# Altium footprint library 2STR2160.PcbLib: 3 footprints
Each footprint in its own frame and in the unit in brackets; x right, y up, seen from the top. Pads: shape width x height; smd on the part's side, far side on the other; paste and mask are expansions set on the pad; w line width, h text height; cw(c..) or ccw(c..) is an arc to the next point about the centre after c.
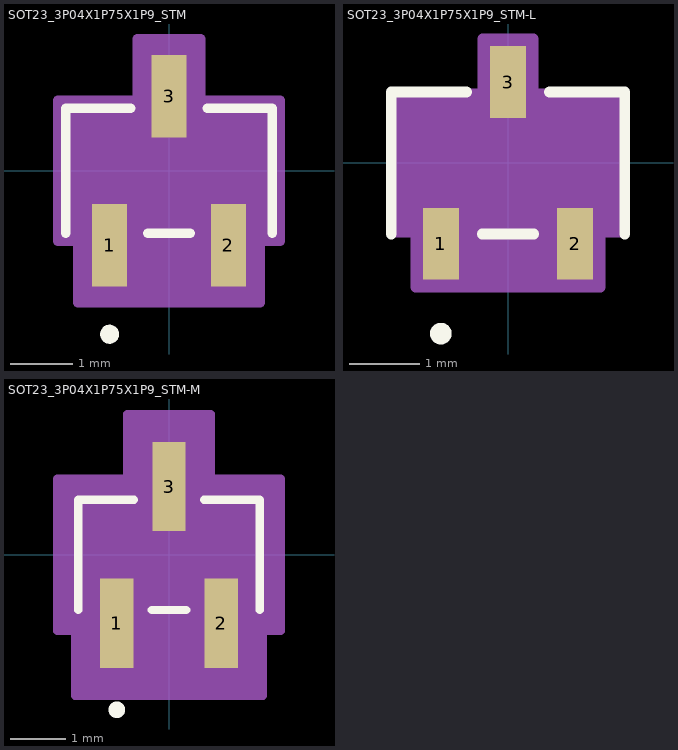
[diagram p0: the footprints below, top view; thin cyan lines are the x and y axes]

## SOT23_3P04X1P75X1P9_STM [mil]
pads (3):
  rect 22x52 smd paste-26 mask-26: 1(-37.4,-47) 2(37.4,-47)
  rect 22x52 smd paste+0 mask+0: 3(0,47)
Top Overlay:
  circle w6: c-37.4,-103 r3
  lines w6: -65,-39.5 -65,39.5 -24.1,39.5 ; -13.3,-39.5 13.3,-39.5 ; 24.1,39.5 65,39.5 65,-39.5
  text ".Designator" at -137.5,-25 h50
Mechanical 13:
  circle w1: c-37.4,-24.5 r3
  lines w1: -60,-34.5 60,-34.5 60,34.5 -60,34.5 -60,-34.5 ; -47.4,-59 -47.4,-34.5 -27.4,-34.5 -27.4,-59 -47.4,-59 ; -10,34.5 10,34.5 10,59 -10,59 -10,34.5 ; 27.4,-59 27.4,-34.5 47.4,-34.5 47.4,-59 27.4,-59
  text ".Designator" at -137.5,-25 h50
Mechanical 15:
  region: -70,-44.5 -70,44.5 -20,44.5 -20,83 20,83 20,44.5 70,44.5 70,-44.5 57.4,-44.5 57.4,-83 -57.4,-83 -57.4,-44.5
  lines w6: -70,-44.5 -70,44.5 -20,44.5 -20,83 20,83 20,44.5 70,44.5 70,-44.5 57.4,-44.5 57.4,-83 -57.4,-83 -57.4,-44.5 -70,-44.5
3D body "SOT23_3P04X1P75X1P9_STM.step": height 55.12, standoff 0, extent -60,-59.02 60,59.02

## SOT23_3P04X1P75X1P9_STM-L [mil]
pads (3):
  rect 20x40 smd paste+0 mask+0: 1(-37.4,-45) 2(37.4,-45) 3(0,45)
Top Overlay:
  circle w6: c-37.4,-95 r3
  lines w6: -65,-39.5 -65,39.5 -23.1,39.5 ; -14.3,-39.5 14.3,-39.5 ; 23.1,39.5 65,39.5 65,-39.5
  text ".Designator" at -137.5,-25 h50
Mechanical 13:
  circle w1: c-37.4,-24.5 r3
  lines w1: -60,-34.5 60,-34.5 60,34.5 -60,34.5 -60,-34.5 ; -47.4,-59 -47.4,-34.5 -27.4,-34.5 -27.4,-59 -47.4,-59 ; -10,34.5 10,34.5 10,59 -10,59 -10,34.5 ; 27.4,-59 27.4,-34.5 47.4,-34.5 47.4,-59 27.4,-59
  text ".Designator" at -137.5,-25 h50
Mechanical 15:
  region: -64,-38.5 -64,38.5 -14,38.5 -14,69 14,69 14,38.5 64,38.5 64,-38.5 51.4,-38.5 51.4,-69 -51.4,-69 -51.4,-38.5
  lines w6: -64,-38.5 -64,38.5 -14,38.5 -14,69 14,69 14,38.5 64,38.5 64,-38.5 51.4,-38.5 51.4,-69 -51.4,-69 -51.4,-38.5 -64,-38.5
3D body "SOT23_3P04X1P75X1P9_STM.step": height 55.12, standoff 0, extent -60,-59.02 60,59.02

## SOT23_3P04X1P75X1P9_STM-M [mil]
pads (3):
  rect 24x64 smd paste+0 mask+0: 1(-37.4,-49) 2(37.4,-49) 3(0,49)
Top Overlay:
  circle w6: c-37.4,-111 r3
  lines w6: -65,-39.5 -65,39.5 -25.1,39.5 ; -12.3,-39.5 12.3,-39.5 ; 25.1,39.5 65,39.5 65,-39.5
  text ".Designator" at -137.5,-25 h50
Mechanical 13:
  circle w1: c-37.4,-24.5 r3
  lines w1: -60,-34.5 60,-34.5 60,34.5 -60,34.5 -60,-34.5 ; -47.4,-59 -47.4,-34.5 -27.4,-34.5 -27.4,-59 -47.4,-59 ; -10,34.5 10,34.5 10,59 -10,59 -10,34.5 ; 27.4,-59 27.4,-34.5 47.4,-34.5 47.4,-59 27.4,-59
  text ".Designator" at -137.5,-25 h50
Mechanical 15:
  region: -80,-54.5 -80,54.5 -30,54.5 -30,101 30,101 30,54.5 80,54.5 80,-54.5 67.4,-54.5 67.4,-101 -67.4,-101 -67.4,-54.5
  lines w6: -80,-54.5 -80,54.5 -30,54.5 -30,101 30,101 30,54.5 80,54.5 80,-54.5 67.4,-54.5 67.4,-101 -67.4,-101 -67.4,-54.5 -80,-54.5
3D body "SOT23_3P04X1P75X1P9_STM.step": height 55.12, standoff 0, extent -60,-59.02 60,59.02